# EAGLE library part WM8782SEDS_V (library WM8782SEDS_V)
Audio A/D Converter ICs STEREO ADC 20-pin Source: Datasheet <https://componentsearchengine.com/Datasheets/1/WM8782SEDS_V.pdf>
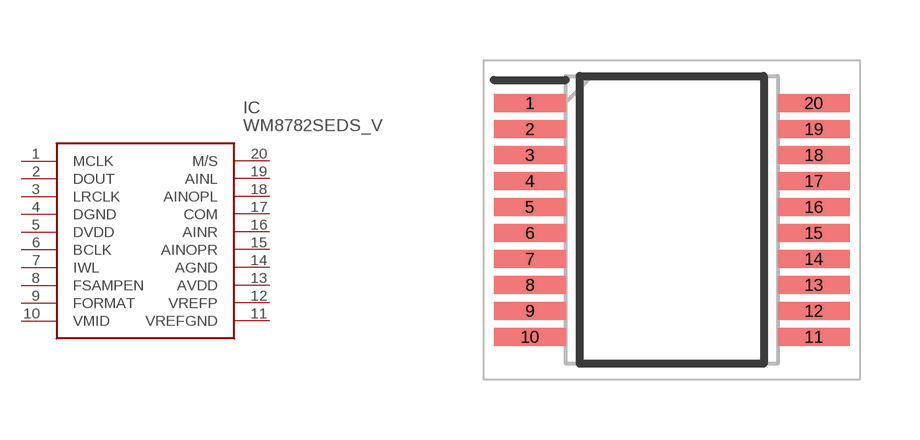
[diagram p0: symbol with the pads of SOP65P780X200-20N; footprint SOP65P780X200-20N]

Designator prefix IC

## WM8782SEDS_V (Description: Audio A/D Converter ICs STEREO ADC 20-pin; Height: 2mm; Manufacturer_Name: Cirrus Logic; Manufacturer_Part_Number: WM8782SEDS/V; Mouser_Part_Number: 238-WM8782SEDS/V; Mouser_Price-Stock: https://www.mouser.com/Search/Refine.aspx?Keyword=238-WM8782SEDS%2FV)  [SOP65P780X200-20N]
1  MCLK
2  DOUT
3  LRCLK
4  DGND
5  DVDD
6  BCLK
7  IWL
8  FSAMPEN
9  FORMAT
10  VMID
11  VREFGND
12  VREFP
13  AVDD
14  AGND
15  AINOPR
16  AINR
17  COM
18  AINOPL
19  AINL
20  M/S

## Footprint SOP65P780X200-20N (pad centres in mm)
20pinssop
smd 1.8 x 0.45: 1 -3.55,2.925; 2 -3.55,2.275; 3 -3.55,1.625; 4 -3.55,0.975; 5 -3.55,0.325; 6 -3.55,-0.325; 7 -3.55,-0.975; 8 -3.55,-1.625; 9 -3.55,-2.275; 10 -3.55,-2.925; 11 3.55,-2.925; 12 3.55,-2.275; 13 3.55,-1.625; 14 3.55,-0.975; 15 3.55,-0.325; 16 3.55,0.325; 17 3.55,0.975; 18 3.55,1.625; 19 3.55,2.275; 20 3.55,2.925